# Altium footprint library LEDM168X80N.PcbLib: 1 footprints
Each footprint in its own frame and in the unit in brackets; x right, y up, seen from the top. Pads: shape width x height; smd on the part's side, far side on the other; paste and mask are expansions set on the pad; w line width, h text height; cw(c..) or ccw(c..) is an arc to the next point about the centre after c.
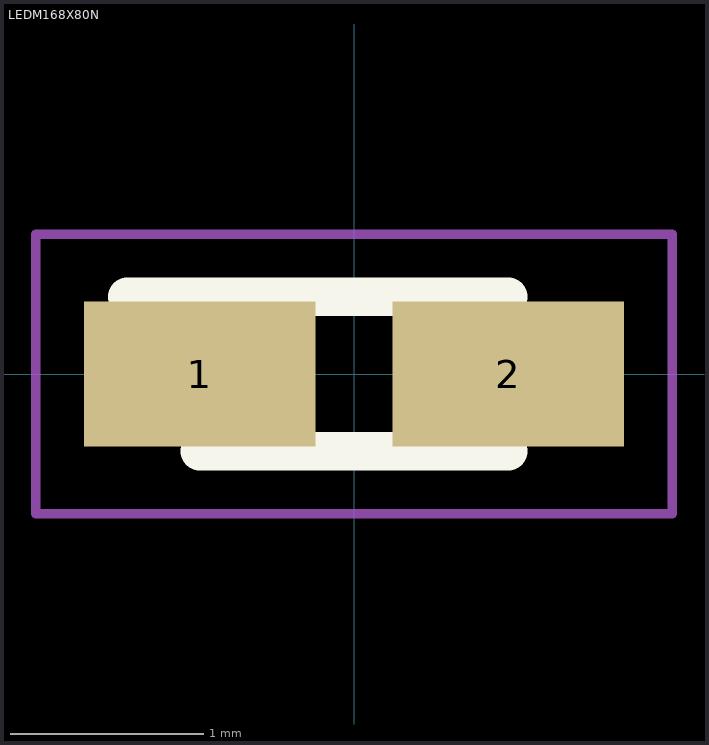
[diagram p0: the footprint, top view; thin cyan lines are the x and y axes]

## LEDM168X80N [mm]
pads (2):
  rect 1.2x0.75 smd: 1(-0.8,0) 2(0.8,0)
Top Overlay:
  lines w0.2: -1.175,0.4 0.8,0.4 ; -0.8,-0.4 0.8,-0.4
Mechanical 15:
  lines w0.1: -0.8,0.025 -0.425,0.4 ; -0.8,-0.4 0.8,-0.4 0.8,0.4 -0.8,0.4 -0.8,-0.4
Mechanical 20:
  lines w0.05: -1.65,-0.725 1.65,-0.725 1.65,0.725 -1.65,0.725 -1.65,-0.725
3D body "APHD1608LCGCK.stp": height 5.8, standoff -4.65, extent -10,-3.376 10,3.376